# EAGLE library part MINI-USB (library T32 ref)
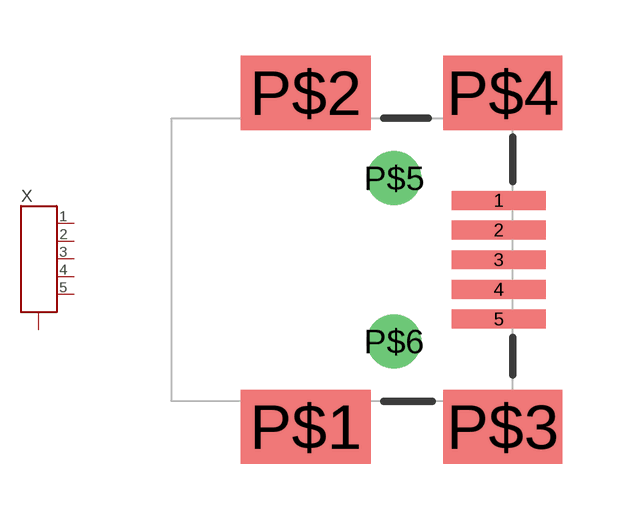
[diagram p0: symbol with the pads of MOLEX_SD-67503-010; footprint MOLEX_SD-67503-010]

Designator prefix X

## MINI-USBMOLEX_0675031230 (DESC: MINI USB; MF: MOLEX; MPN: 0675031020; OC_MOUSER: 538-67503-1020; TYPE: Mini USB)  [MOLEX_SD-67503-010]
1  1  in
2  2  in
3  3  in
4  4  in
5  5  in
P$1  CASE  in
P$2  CASE  in
P$3  CASE  in
P$4  CASE  in
P$5  CASE  in
P$6  CASE  in

## Footprint MOLEX_SD-67503-010 (pad centres in mm)
USB Series Mini-B Surface Mounted
smd 2.54 x 0.508: 1 2.819,1.6; 2 2.819,0.8; 3 2.819,0; 4 2.819,-0.8; 5 2.819,-1.6
smd 3.5 x 2: P$1 -2.375,-4.5; P$2 -2.375,4.5
smd 3.2 x 2: P$3 2.925,-4.5; P$4 2.925,4.5
drill 0.95: P$5 0,2.2; P$6 0,-2.2